# Altium footprint library TVP5150AM1.PcbLib: 20 footprints (part 2 of 2)
Each footprint in its own frame and in the unit in brackets; x right, y up, seen from the top. Pads: shape width x height; smd on the part's side, far side on the other; paste and mask are expansions set on the pad; w line width, h text height; cw(c..) or ccw(c..) is an arc to the next point about the centre after c.
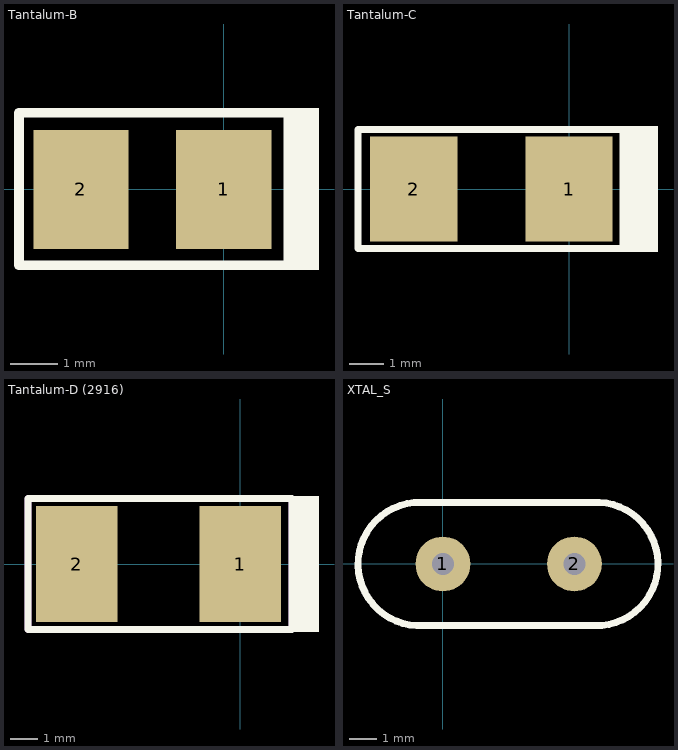
[diagram p1: the footprints below, top view; thin cyan lines are the x and y axes]

## Tantalum-B [mm] "1210 (3528 Metric) Tantalum Capacitor"
pads (2):
  rect 2x2.5 smd: 1(0,0) 2(-3,0)
Top Overlay:
  rectangle: 1.255,-1.69 2,1.71
  lines w0.2: 1.355,1.61 -3.145,1.61 -4.3,1.61 -4.3,-1.59 -2.545,-1.59 1.9,-1.59
Mechanical 13:
  text ".Designator" at -4.514,-0.7 h1.52
3D body "User Library-Tantalum Capacitor Case B.STEP": height 2.09, standoff -0.01, extent -3.39,-1.41 0.3,1.41

## Tantalum-C [mm] "(6032) tantalum capacitor"
pads (2):
  rect 2.5x3 smd: 1(0,0) 2(-4.45,0)
Top Overlay:
  rectangle: 1.45,-1.8 2.55,1.8
  lines w0.2: 1.65,-1.7 -2.9,-1.7 -6.05,-1.7 -6.05,1.7 -3.5,1.7 1,1.7 1.65,1.7
Mechanical 13:
  text ".Designator" at -5.403,-0.827 h1.52
3D body "User Library-Tantalum Size C.STEP": height 2.6, standoff 0, extent -5.1,-1.6 0.7,1.6

## Tantalum-D (2916) [mm] "Tantalum Capacitor p=6mm size  2916 (metric 7343)"
pads (2):
  rect 3x4.25 smd: 1(0,0) 2(-6,0)
Top Overlay:
  rectangle: 1.8,-2.5 2.9,2.5
  lines w0.254: -7.8,-2.4 -7.8,2.4 1.9,2.4 1.9,-2.4 -7.8,-2.4
Mechanical 13:
  lines w0.254: -7.8,-2.4 1.9,-2.4 1.9,2.4 -7.8,2.4 -7.8,-2.4
  text ".Designator" at -6.8,-0.7 h1.52
3D body "User Library-CaseD_7343-31.STEP": height 2.8, standoff 0, extent -6.55,-2.2 0.75,2.1

## XTAL_S [mm] "Xtal Short Height P=4.8mm"
pads (2):
  round 2 hole 0.8: 1(0,0) 2(4.8,0)
Top Overlay:
  lines w0.254: -0.8,2.249 ccw(c-0.85,-0.002) -0.7,-2.249 5.549,-2.249 5.55,-2.25 ccw(c5.6,0.002) 5.45,2.249 5.45,2.249 -0.8,2.249
3D body "SW3dPS-HP49US.STEP": height 2.4, standoff -5.1, extent -3.275,-2.286 8.075,2.364